# Altium schematic symbol library Oscillators.SchLib: 1 symbol
Pins are listed as number, name and electrical type; pins without a type are passive.

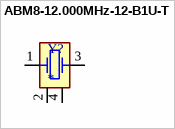
[diagram p0: symbol ABM8-12.000MHz-12-B1U-T]

## ABM8-12.000MHz-12-B1U-T
designator Y?
Crystal or Oscillator; Manufacturer_Name: ABRACON; Manufacturer_Part_Number: ABM8-12.000MHz-12-B1U-T; Datasheet Link: https://abracon.com/Resonators/abm8.pdf; Height: 0.8mm; Mouser Part Number: 815-M812000MHZ12B1UT; Mouser Price/Stock: https://www.mouser.co.uk/ProductDetail/ABRACON/ABM8-12.000MHZ-12-B1U-T?qs=vLWxofP3U2wqlTvBlimfnA%3D%3D; Arrow Part Number: ABM8-12.000MHZ-12-B1U-T; Arrow Price/Stock: https://www.arrow.com/en/products/abm8-12.000mhz-12-b1u-t/abracon?region=nac
footprint ABM812000MHzB2T
pins: 1, 2, 3, 4